# Altium integrated library National Semiconductor Switcher.IntLib: 2226 symbols (part 38 of 59)
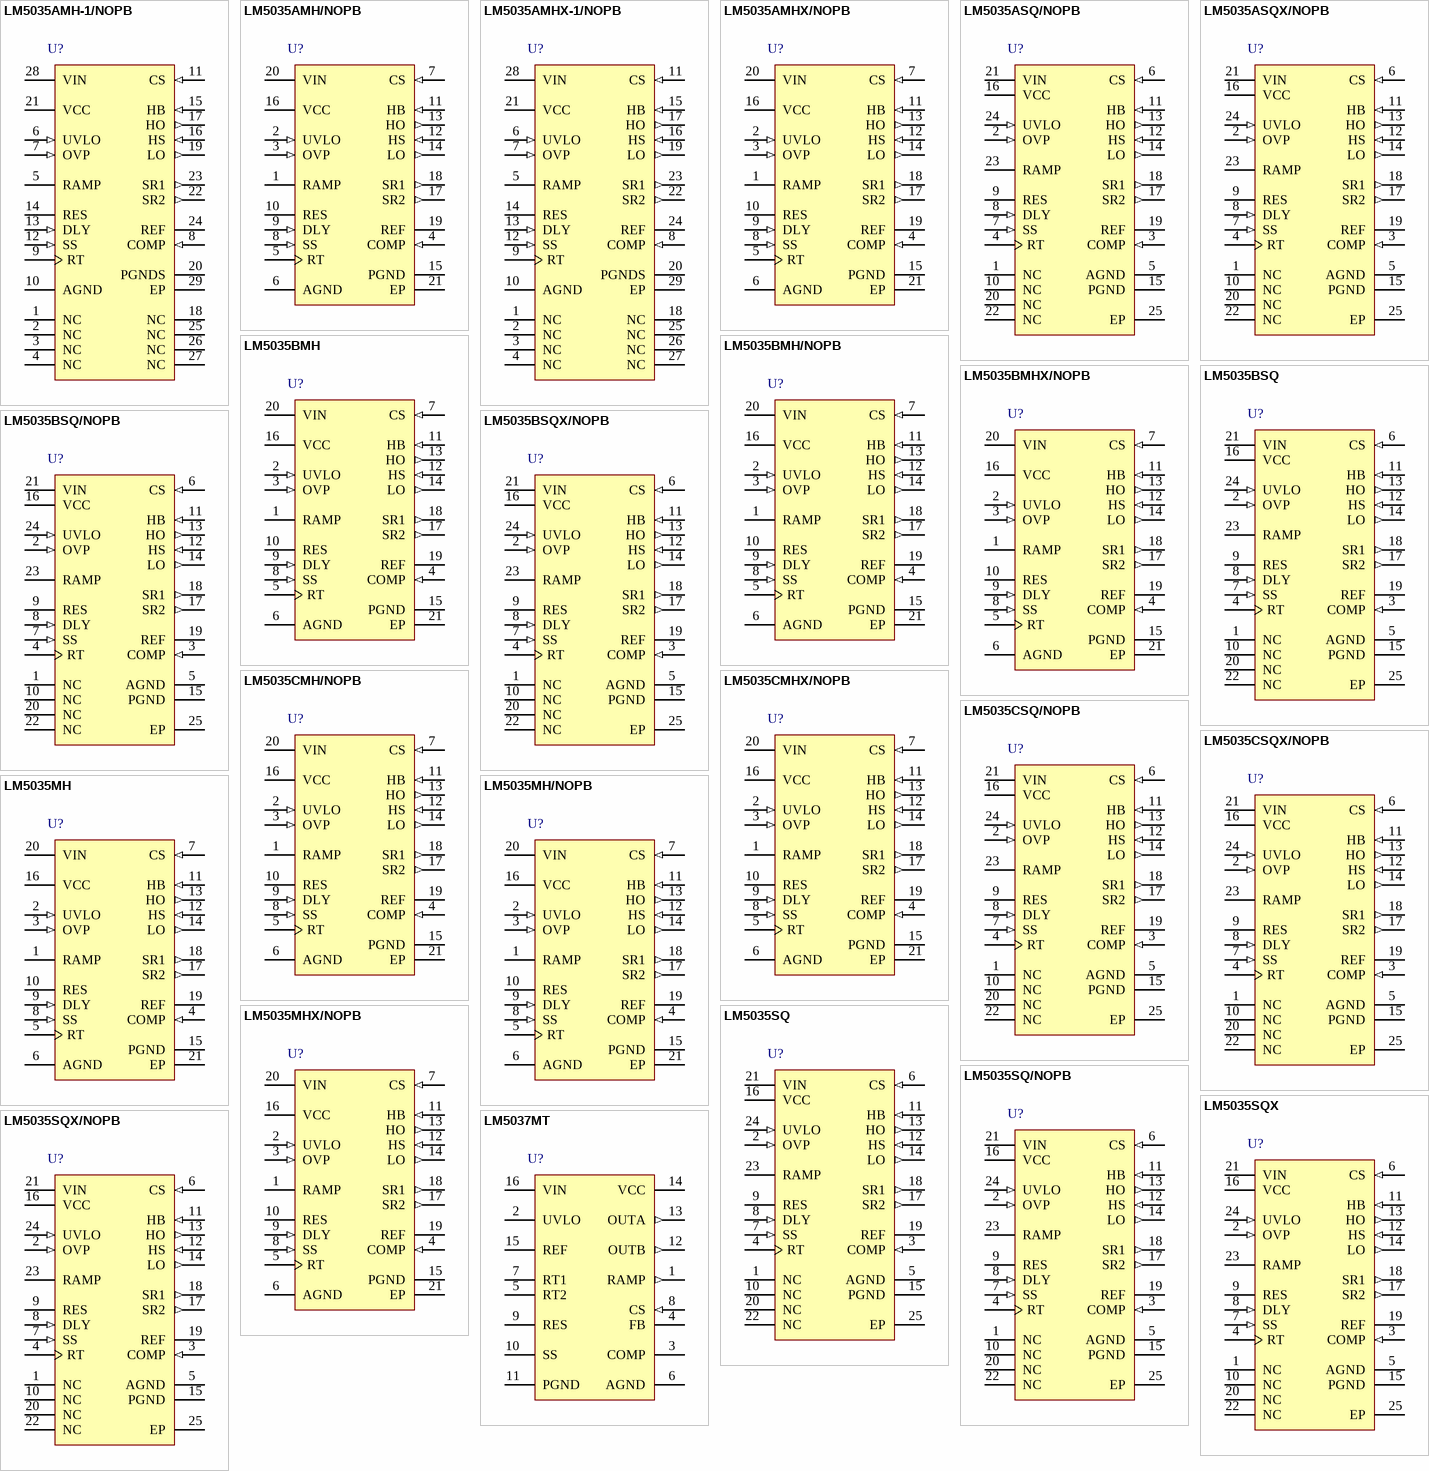
[diagram p106: symbols LM5035AMH-1/NOPB to LM5037MT]

## LM5035BMH/NOPB
designator U?
PWM Controller with Integrated Half-Bridge and SyncFET Drivers, 20-pin TSSOP-EP, Pb-Free; PartNumber: LM5035BMH/NOPB; Manufacturer: National Semiconductor; PackageTopMarking: NSUZXYTT*LM5035*BMH; PowerWise: Y; CompType: Switcher; DatasheetVersion: Jul-2009; PackageVersion: revC, Jul-2006; PackageReference: MXA20A; PackageDescription: Molded TSSOP, Jedec, 6.5 x 4.4 x 0.9mm Body, 20 Lead, 0.65mm Pitch, Exposed Pad; RoHS: Y; PinCount: 20; High-Reliability: Y; Code_JEDEC: MO-153-ACT; ComponentLink1Description: Manufacturer URL; ComponentLink1URL: http://www.national.com/; ComponentLink2Description: LM5035B Datasheet; ComponentLink2URL: http://www.national.com/ds/LM/LM5035B.pdf; ComponentLink3Description: LM5035B Web Page; ComponentLink3URL: http://www.national.com/pf/LM/LM5035B.html; ComponentLink4Description: MXA20A Package Page; ComponentLink4URL: http://www.national.com/packaging/folders/mxa20a.html
footprint MXA20A_N (TSOP, 20-Leads, Body 6.5x4.4mm, Pitch 0.65mm, Thermal Pad, IPC Medium Density)
footprint MXA20A_L (TSOP, 20-Leads, Body 6.5x4.4mm, Pitch 0.65mm, Thermal Pad, IPC High Density)
footprint MXA20A_M (TSOP, 20-Leads, Body 6.5x4.4mm, Pitch 0.65mm, Thermal Pad, IPC Low Density)
pins: 1 RAMP, 2 UVLO (in), 3 OVP (in), 4 COMP (in), 5 RT (power), 6 AGND (power), 7 CS (in), 8 SS (in), 9 DLY (in), 10 RES, 11 HB (in), 12 HS (in), 13 HO (out), 14 LO (out), 15 PGND (power), 16 VCC (power), 17 SR2 (out), 18 SR1 (out), 19 REF (power), 20 VIN (power), 21 EP (power)

## LM5035BMHX/NOPB
designator U?
PWM Controller with Integrated Half-Bridge and SyncFET Drivers, 20-pin TSSOP-EP, Pb-Free; PartNumber: LM5035BMHX/NOPB; Manufacturer: National Semiconductor; PackageTopMarking: NSUZXYTT*LM5035*BMH; PowerWise: Y; CompType: Switcher; DatasheetVersion: Jul-2009; PackageVersion: revC, Jul-2006; PackageReference: MXA20A; PackageDescription: Molded TSSOP, Jedec, 6.5 x 4.4 x 0.9mm Body, 20 Lead, 0.65mm Pitch, Exposed Pad; RoHS: Y; PinCount: 20; High-Reliability: Y; Code_JEDEC: MO-153-ACT; ComponentLink1Description: Manufacturer URL; ComponentLink1URL: http://www.national.com/; ComponentLink2Description: LM5035B Datasheet; ComponentLink2URL: http://www.national.com/ds/LM/LM5035B.pdf; ComponentLink3Description: LM5035B Web Page; ComponentLink3URL: http://www.national.com/pf/LM/LM5035B.html; ComponentLink4Description: MXA20A Package Page; ComponentLink4URL: http://www.national.com/packaging/folders/mxa20a.html
footprint MXA20A_N (TSOP, 20-Leads, Body 6.5x4.4mm, Pitch 0.65mm, Thermal Pad, IPC Medium Density)
footprint MXA20A_L (TSOP, 20-Leads, Body 6.5x4.4mm, Pitch 0.65mm, Thermal Pad, IPC High Density)
footprint MXA20A_M (TSOP, 20-Leads, Body 6.5x4.4mm, Pitch 0.65mm, Thermal Pad, IPC Low Density)
pins: 1 RAMP, 2 UVLO (in), 3 OVP (in), 4 COMP (in), 5 RT (power), 6 AGND (power), 7 CS (in), 8 SS (in), 9 DLY (in), 10 RES, 11 HB (in), 12 HS (in), 13 HO (out), 14 LO (out), 15 PGND (power), 16 VCC (power), 17 SR2 (out), 18 SR1 (out), 19 REF (power), 20 VIN (power), 21 EP (power)

## LM5035BSQ
designator U?
PWM Controller with Integrated Half-Bridge and SyncFET Drivers, 24-pin LLP; PartNumber: LM5035BSQ; Manufacturer: National Semiconductor; PackageTopMarking: NS*UZXYTT*5035BSQ; PowerWise: N; CompType: Switcher; High-Reliability: Y; DatasheetVersion: Jul-2009; PackageVersion: revA, Oct-2003; PackageReference: SQA24B; PackageDescription: LLP, Plastic, Quad, 5 x 4 x 0.8mm Body, 24 Lead, 0.5mm Pitch, No Pullback; RoHS: Y; PinCount: 24; Code_JEDEC: MO-220-WGHD-1; ComponentLink1Description: Manufacturer URL; ComponentLink1URL: http://www.national.com/; ComponentLink2Description: LM5035B Datasheet; ComponentLink2URL: http://www.national.com/ds/LM/LM5035B.pdf; ComponentLink3Description: LM5035B Web Page; ComponentLink3URL: http://www.national.com/pf/LM/LM5035B.html; ComponentLink4Description: SQA24B Package Page; ComponentLink4URL: http://www.national.com/packaging/folders/sqa24b.html
footprint SQA24B (QFN, 24-Leads, Body 5x4mm, Pitch 0.5mm, NSC Recommended)
pins: 1 NC, 2 OVP (in), 3 COMP (in), 4 RT (power), 5 AGND (power), 6 CS (in), 7 SS (in), 8 DLY (in), 9 RES, 10 NC, 11 HB (in), 12 HS (in), 13 HO (out), 14 LO (out), 15 PGND (power), 16 VCC (power), 17 SR2 (out), 18 SR1 (out), 19 REF (power), 20 NC, 21 VIN (power), 22 NC, 23 RAMP, 24 UVLO (in), 25 EP (power)

## LM5035BSQ/NOPB
designator U?
PWM Controller with Integrated Half-Bridge and SyncFET Drivers, 24-pin LLP, Pb-Free; PartNumber: LM5035BSQ/NOPB; Manufacturer: National Semiconductor; PackageTopMarking: NS*UZXYTT*5035BSQ; PowerWise: Y; CompType: Switcher; DatasheetVersion: Jul-2009; PackageVersion: revA, Oct-2003; PackageReference: SQA24B; PackageDescription: LLP, Plastic, Quad, 5 x 4 x 0.8mm Body, 24 Lead, 0.5mm Pitch, No Pullback; RoHS: Y; PinCount: 24; High-Reliability: Y; Code_JEDEC: MO-220-WGHD-1; ComponentLink1Description: Manufacturer URL; ComponentLink1URL: http://www.national.com/; ComponentLink2Description: LM5035B Datasheet; ComponentLink2URL: http://www.national.com/ds/LM/LM5035B.pdf; ComponentLink3Description: LM5035B Web Page; ComponentLink3URL: http://www.national.com/pf/LM/LM5035B.html; ComponentLink4Description: SQA24B Package Page; ComponentLink4URL: http://www.national.com/packaging/folders/sqa24b.html
footprint SQA24B (QFN, 24-Leads, Body 5x4mm, Pitch 0.5mm, NSC Recommended)
pins: 1 NC, 2 OVP (in), 3 COMP (in), 4 RT (power), 5 AGND (power), 6 CS (in), 7 SS (in), 8 DLY (in), 9 RES, 10 NC, 11 HB (in), 12 HS (in), 13 HO (out), 14 LO (out), 15 PGND (power), 16 VCC (power), 17 SR2 (out), 18 SR1 (out), 19 REF (power), 20 NC, 21 VIN (power), 22 NC, 23 RAMP, 24 UVLO (in), 25 EP (power)

## LM5035BSQX/NOPB
designator U?
PWM Controller with Integrated Half-Bridge and SyncFET Drivers, 24-pin LLP, Pb-Free; PartNumber: LM5035BSQX/NOPB; Manufacturer: National Semiconductor; PackageTopMarking: NS*UZXYTT*5035BSQ; PowerWise: Y; CompType: Switcher; DatasheetVersion: Jul-2009; PackageVersion: revA, Oct-2003; PackageReference: SQA24B; PackageDescription: LLP, Plastic, Quad, 5 x 4 x 0.8mm Body, 24 Lead, 0.5mm Pitch, No Pullback; RoHS: Y; PinCount: 24; High-Reliability: Y; Code_JEDEC: MO-220-WGHD-1; ComponentLink1Description: Manufacturer URL; ComponentLink1URL: http://www.national.com/; ComponentLink2Description: LM5035B Datasheet; ComponentLink2URL: http://www.national.com/ds/LM/LM5035B.pdf; ComponentLink3Description: LM5035B Web Page; ComponentLink3URL: http://www.national.com/pf/LM/LM5035B.html; ComponentLink4Description: SQA24B Package Page; ComponentLink4URL: http://www.national.com/packaging/folders/sqa24b.html
footprint SQA24B (QFN, 24-Leads, Body 5x4mm, Pitch 0.5mm, NSC Recommended)
pins: 1 NC, 2 OVP (in), 3 COMP (in), 4 RT (power), 5 AGND (power), 6 CS (in), 7 SS (in), 8 DLY (in), 9 RES, 10 NC, 11 HB (in), 12 HS (in), 13 HO (out), 14 LO (out), 15 PGND (power), 16 VCC (power), 17 SR2 (out), 18 SR1 (out), 19 REF (power), 20 NC, 21 VIN (power), 22 NC, 23 RAMP, 24 UVLO (in), 25 EP (power)

## LM5035CMH/NOPB
designator U?
PWM Controller with Integrated Half-Bridge and SyncFET Drivers, 20-pin TSSOP-EP, Pb-Free; PartNumber: LM5035CMH/NOPB; Manufacturer: National Semiconductor; PackageTopMarking: NSUZXYTT*LM5035*CMH; PowerWise: Y; CompType: Switcher; DatasheetVersion: Jan-2010; PackageVersion: revC, Jul-2006; PackageReference: MXA20A; PackageDescription: Molded TSSOP, Jedec, 6.5 x 4.4 x 0.9mm Body, 20 Lead, 0.65mm Pitch, Exposed Pad; RoHS: Y; PinCount: 20; High-Reliability: Y; Code_JEDEC: MO-153-ACT; ComponentLink1Description: Manufacturer URL; ComponentLink1URL: http://www.national.com/; ComponentLink2Description: LM5035 Datasheet; ComponentLink2URL: http://www.national.com/ds/LM/LM5035C.pdf; ComponentLink3Description: LM5035 Web Page; ComponentLink3URL: http://www.national.com/pf/LM/LM5035.html; ComponentLink4Description: MXA20A Package Page; ComponentLink4URL: http://www.national.com/packaging/folders/mxa20a.html
footprint MXA20A_N (TSOP, 20-Leads, Body 6.5x4.4mm, Pitch 0.65mm, Thermal Pad, IPC Medium Density)
footprint MXA20A_L (TSOP, 20-Leads, Body 6.5x4.4mm, Pitch 0.65mm, Thermal Pad, IPC High Density)
footprint MXA20A_M (TSOP, 20-Leads, Body 6.5x4.4mm, Pitch 0.65mm, Thermal Pad, IPC Low Density)
pins: 1 RAMP, 2 UVLO (in), 3 OVP (in), 4 COMP (in), 5 RT (power), 6 AGND (power), 7 CS (in), 8 SS (in), 9 DLY (in), 10 RES, 11 HB (in), 12 HS (in), 13 HO (out), 14 LO (out), 15 PGND (power), 16 VCC (power), 17 SR2 (out), 18 SR1 (out), 19 REF (power), 20 VIN (power), 21 EP (power)

## LM5035CMHX/NOPB
designator U?
PWM Controller with Integrated Half-Bridge and SyncFET Drivers, 20-pin TSSOP-EP, Pb-Free; PartNumber: LM5035CMHX/NOPB; Manufacturer: National Semiconductor; PackageTopMarking: NSUZXYTT*LM5035*CMH; PowerWise: Y; CompType: Switcher; DatasheetVersion: Jan-2010; PackageVersion: revC, Jul-2006; PackageReference: MXA20A; PackageDescription: Molded TSSOP, Jedec, 6.5 x 4.4 x 0.9mm Body, 20 Lead, 0.65mm Pitch, Exposed Pad; RoHS: Y; PinCount: 20; High-Reliability: Y; Code_JEDEC: MO-153-ACT; ComponentLink1Description: Manufacturer URL; ComponentLink1URL: http://www.national.com/; ComponentLink2Description: LM5035 Datasheet; ComponentLink2URL: http://www.national.com/ds/LM/LM5035C.pdf; ComponentLink3Description: LM5035 Web Page; ComponentLink3URL: http://www.national.com/pf/LM/LM5035.html; ComponentLink4Description: MXA20A Package Page; ComponentLink4URL: http://www.national.com/packaging/folders/mxa20a.html
footprint MXA20A_N (TSOP, 20-Leads, Body 6.5x4.4mm, Pitch 0.65mm, Thermal Pad, IPC Medium Density)
footprint MXA20A_L (TSOP, 20-Leads, Body 6.5x4.4mm, Pitch 0.65mm, Thermal Pad, IPC High Density)
footprint MXA20A_M (TSOP, 20-Leads, Body 6.5x4.4mm, Pitch 0.65mm, Thermal Pad, IPC Low Density)
pins: 1 RAMP, 2 UVLO (in), 3 OVP (in), 4 COMP (in), 5 RT (power), 6 AGND (power), 7 CS (in), 8 SS (in), 9 DLY (in), 10 RES, 11 HB (in), 12 HS (in), 13 HO (out), 14 LO (out), 15 PGND (power), 16 VCC (power), 17 SR2 (out), 18 SR1 (out), 19 REF (power), 20 VIN (power), 21 EP (power)

## LM5035CSQ/NOPB
designator U?
PWM Controller with Integrated Half-Bridge and SyncFET Drivers, 24-pin LLP, Pb-Free; PartNumber: LM5035CSQ/NOPB; Manufacturer: National Semiconductor; PackageTopMarking: NS*UZXYTT*5035CSQ; PowerWise: Y; CompType: Switcher; DatasheetVersion: Jan-2010; PackageVersion: revA, Oct-2003; PackageReference: SQA24B; PackageDescription: LLP, Plastic, Quad, 5 x 4 x 0.8mm Body, 24 Lead, 0.5mm Pitch, No Pullback; RoHS: Y; PinCount: 24; High-Reliability: Y; Code_JEDEC: MO-220-WGHD-1; ComponentLink1Description: Manufacturer URL; ComponentLink1URL: http://www.national.com/; ComponentLink2Description: LM5035 Datasheet; ComponentLink2URL: http://www.national.com/ds/LM/LM5035C.pdf; ComponentLink3Description: LM5035 Web Page; ComponentLink3URL: http://www.national.com/pf/LM/LM5035.html; ComponentLink4Description: SQA24B Package Page; ComponentLink4URL: http://www.national.com/packaging/folders/sqa24b.html
footprint SQA24B (QFN, 24-Leads, Body 5x4mm, Pitch 0.5mm, NSC Recommended)
pins: 1 NC, 2 OVP (in), 3 COMP (in), 4 RT (power), 5 AGND (power), 6 CS (in), 7 SS (in), 8 DLY (in), 9 RES, 10 NC, 11 HB (in), 12 HS (in), 13 HO (out), 14 LO (out), 15 PGND (power), 16 VCC (power), 17 SR2 (out), 18 SR1 (out), 19 REF (power), 20 NC, 21 VIN (power), 22 NC, 23 RAMP, 24 UVLO (in), 25 EP (power)

## LM5035CSQX/NOPB
designator U?
PWM Controller with Integrated Half-Bridge and SyncFET Drivers, 24-pin LLP, Pb-Free; PartNumber: LM5035CSQX/NOPB; Manufacturer: National Semiconductor; PackageTopMarking: NS*UZXYTT*5035CSQ; PowerWise: Y; CompType: Switcher; DatasheetVersion: Jan-2010; PackageVersion: revA, Oct-2003; PackageReference: SQA24B; PackageDescription: LLP, Plastic, Quad, 5 x 4 x 0.8mm Body, 24 Lead, 0.5mm Pitch, No Pullback; RoHS: Y; PinCount: 24; High-Reliability: Y; Code_JEDEC: MO-220-WGHD-1; ComponentLink1Description: Manufacturer URL; ComponentLink1URL: http://www.national.com/; ComponentLink2Description: LM5035 Datasheet; ComponentLink2URL: http://www.national.com/ds/LM/LM5035C.pdf; ComponentLink3Description: LM5035 Web Page; ComponentLink3URL: http://www.national.com/pf/LM/LM5035.html; ComponentLink4Description: SQA24B Package Page; ComponentLink4URL: http://www.national.com/packaging/folders/sqa24b.html
footprint SQA24B (QFN, 24-Leads, Body 5x4mm, Pitch 0.5mm, NSC Recommended)
pins: 1 NC, 2 OVP (in), 3 COMP (in), 4 RT (power), 5 AGND (power), 6 CS (in), 7 SS (in), 8 DLY (in), 9 RES, 10 NC, 11 HB (in), 12 HS (in), 13 HO (out), 14 LO (out), 15 PGND (power), 16 VCC (power), 17 SR2 (out), 18 SR1 (out), 19 REF (power), 20 NC, 21 VIN (power), 22 NC, 23 RAMP, 24 UVLO (in), 25 EP (power)

## LM5035MH
designator U?
PWM Controller with Integrated Half-Bridge and SyncFET Drivers, 20-pin TSSOP-EP; PartNumber: LM5035MH; Manufacturer: National Semiconductor; PackageTopMarking: NSUZXYTT*LM5035*MH; PowerWise: Y; CompType: Switcher; DatasheetVersion: Dec-2008; PackageVersion: revC, Jul-2006; PackageReference: MXA20A; PackageDescription: Molded TSSOP, Jedec, 6.5 x 4.4 x 0.9mm Body, 20 Lead, 0.65mm Pitch, Exposed Pad; RoHS: N; PinCount: 20; High-Reliability: Y; Code_JEDEC: MO-153-ACT; ComponentLink1Description: Manufacturer URL; ComponentLink1URL: http://www.national.com/; ComponentLink2Description: LM5035 Datasheet; ComponentLink2URL: http://www.national.com/ds/LM/LM5035.pdf; ComponentLink3Description: LM5035 Web Page; ComponentLink3URL: http://www.national.com/pf/LM/LM5035.html; ComponentLink4Description: MXA20A Package Page; ComponentLink4URL: http://www.national.com/packaging/folders/mxa20a.html
footprint MXA20A_N (TSOP, 20-Leads, Body 6.5x4.4mm, Pitch 0.65mm, Thermal Pad, IPC Medium Density)
footprint MXA20A_L (TSOP, 20-Leads, Body 6.5x4.4mm, Pitch 0.65mm, Thermal Pad, IPC High Density)
footprint MXA20A_M (TSOP, 20-Leads, Body 6.5x4.4mm, Pitch 0.65mm, Thermal Pad, IPC Low Density)
pins: 1 RAMP, 2 UVLO (in), 3 OVP (in), 4 COMP (in), 5 RT (power), 6 AGND (power), 7 CS (in), 8 SS (in), 9 DLY (in), 10 RES, 11 HB (in), 12 HS (in), 13 HO (out), 14 LO (out), 15 PGND (power), 16 VCC (power), 17 SR2 (out), 18 SR1 (out), 19 REF (power), 20 VIN (power), 21 EP (power)

## LM5035MH/NOPB
designator U?
PWM Controller with Integrated Half-Bridge and SyncFET Drivers, 20-pin TSSOP-EP, Pb-Free; PartNumber: LM5035MH/NOPB; Manufacturer: National Semiconductor; PackageTopMarking: NSUZXYTT*LM5035*MH; PowerWise: Y; CompType: Switcher; DatasheetVersion: Dec-2008; PackageVersion: revC, Jul-2006; PackageReference: MXA20A; PackageDescription: Molded TSSOP, Jedec, 6.5 x 4.4 x 0.9mm Body, 20 Lead, 0.65mm Pitch, Exposed Pad; RoHS: Y; PinCount: 20; High-Reliability: Y; Code_JEDEC: MO-153-ACT; ComponentLink1Description: Manufacturer URL; ComponentLink1URL: http://www.national.com/; ComponentLink2Description: LM5035 Datasheet; ComponentLink2URL: http://www.national.com/ds/LM/LM5035.pdf; ComponentLink3Description: LM5035 Web Page; ComponentLink3URL: http://www.national.com/pf/LM/LM5035.html; ComponentLink4Description: MXA20A Package Page; ComponentLink4URL: http://www.national.com/packaging/folders/mxa20a.html
footprint MXA20A_N (TSOP, 20-Leads, Body 6.5x4.4mm, Pitch 0.65mm, Thermal Pad, IPC Medium Density)
footprint MXA20A_L (TSOP, 20-Leads, Body 6.5x4.4mm, Pitch 0.65mm, Thermal Pad, IPC High Density)
footprint MXA20A_M (TSOP, 20-Leads, Body 6.5x4.4mm, Pitch 0.65mm, Thermal Pad, IPC Low Density)
pins: 1 RAMP, 2 UVLO (in), 3 OVP (in), 4 COMP (in), 5 RT (power), 6 AGND (power), 7 CS (in), 8 SS (in), 9 DLY (in), 10 RES, 11 HB (in), 12 HS (in), 13 HO (out), 14 LO (out), 15 PGND (power), 16 VCC (power), 17 SR2 (out), 18 SR1 (out), 19 REF (power), 20 VIN (power), 21 EP (power)

## LM5035MHX/NOPB
designator U?
PWM Controller with Integrated Half-Bridge and SyncFET Drivers, 20-pin TSSOP-EP, Pb-Free; PartNumber: LM5035MHX/NOPB; Manufacturer: National Semiconductor; PackageTopMarking: NSUZXYTT*LM5035*MH; PowerWise: Y; CompType: Switcher; DatasheetVersion: Dec-2008; PackageVersion: revC, Jul-2006; PackageReference: MXA20A; PackageDescription: Molded TSSOP, Jedec, 6.5 x 4.4 x 0.9mm Body, 20 Lead, 0.65mm Pitch, Exposed Pad; RoHS: Y; PinCount: 20; High-Reliability: Y; Code_JEDEC: MO-153-ACT; ComponentLink1Description: Manufacturer URL; ComponentLink1URL: http://www.national.com/; ComponentLink2Description: LM5035 Datasheet; ComponentLink2URL: http://www.national.com/ds/LM/LM5035.pdf; ComponentLink3Description: LM5035 Web Page; ComponentLink3URL: http://www.national.com/pf/LM/LM5035.html; ComponentLink4Description: MXA20A Package Page; ComponentLink4URL: http://www.national.com/packaging/folders/mxa20a.html
footprint MXA20A_N (TSOP, 20-Leads, Body 6.5x4.4mm, Pitch 0.65mm, Thermal Pad, IPC Medium Density)
footprint MXA20A_L (TSOP, 20-Leads, Body 6.5x4.4mm, Pitch 0.65mm, Thermal Pad, IPC High Density)
footprint MXA20A_M (TSOP, 20-Leads, Body 6.5x4.4mm, Pitch 0.65mm, Thermal Pad, IPC Low Density)
pins: 1 RAMP, 2 UVLO (in), 3 OVP (in), 4 COMP (in), 5 RT (power), 6 AGND (power), 7 CS (in), 8 SS (in), 9 DLY (in), 10 RES, 11 HB (in), 12 HS (in), 13 HO (out), 14 LO (out), 15 PGND (power), 16 VCC (power), 17 SR2 (out), 18 SR1 (out), 19 REF (power), 20 VIN (power), 21 EP (power)

## LM5035SQ
designator U?
PWM Controller with Integrated Half-Bridge and SyncFET Drivers, 24-pin LLP; PartNumber: LM5035SQ; Manufacturer: National Semiconductor; PackageTopMarking: NS*UZXYTT*L5035SQ; PowerWise: Y; CompType: Switcher; DatasheetVersion: Dec-2008; PackageVersion: revA, Oct-2003; PackageReference: SQA24B; PackageDescription: LLP, Plastic, Quad, 5 x 4 x 0.8mm Body, 24 Lead, 0.5mm Pitch, No Pullback; RoHS: N; PinCount: 24; High-Reliability: Y; Code_JEDEC: MO-220-WGHD-1; ComponentLink1Description: Manufacturer URL; ComponentLink1URL: http://www.national.com/; ComponentLink2Description: LM5035 Datasheet; ComponentLink2URL: http://www.national.com/ds/LM/LM5035.pdf; ComponentLink3Description: LM5035 Web Page; ComponentLink3URL: http://www.national.com/pf/LM/LM5035.html; ComponentLink4Description: SQA24B Package Page; ComponentLink4URL: http://www.national.com/packaging/folders/sqa24b.html
footprint SQA24B (QFN, 24-Leads, Body 5x4mm, Pitch 0.5mm, NSC Recommended)
pins: 1 NC, 2 OVP (in), 3 COMP (in), 4 RT (power), 5 AGND (power), 6 CS (in), 7 SS (in), 8 DLY (in), 9 RES, 10 NC, 11 HB (in), 12 HS (in), 13 HO (out), 14 LO (out), 15 PGND (power), 16 VCC (power), 17 SR2 (out), 18 SR1 (out), 19 REF (power), 20 NC, 21 VIN (power), 22 NC, 23 RAMP, 24 UVLO (in), 25 EP (power)

## LM5035SQ/NOPB
designator U?
PWM Controller with Integrated Half-Bridge and SyncFET Drivers, 24-pin LLP, Pb-Free; PartNumber: LM5035SQ/NOPB; Manufacturer: National Semiconductor; PackageTopMarking: NS*UZXYTT*L5035SQ; PowerWise: Y; CompType: Switcher; DatasheetVersion: Dec-2008; PackageVersion: revA, Oct-2003; PackageReference: SQA24B; PackageDescription: LLP, Plastic, Quad, 5 x 4 x 0.8mm Body, 24 Lead, 0.5mm Pitch, No Pullback; RoHS: Y; PinCount: 24; High-Reliability: Y; Code_JEDEC: MO-220-WGHD-1; ComponentLink1Description: Manufacturer URL; ComponentLink1URL: http://www.national.com/; ComponentLink2Description: LM5035 Datasheet; ComponentLink2URL: http://www.national.com/ds/LM/LM5035.pdf; ComponentLink3Description: LM5035 Web Page; ComponentLink3URL: http://www.national.com/pf/LM/LM5035.html; ComponentLink4Description: SQA24B Package Page; ComponentLink4URL: http://www.national.com/packaging/folders/sqa24b.html
footprint SQA24B (QFN, 24-Leads, Body 5x4mm, Pitch 0.5mm, NSC Recommended)
pins: 1 NC, 2 OVP (in), 3 COMP (in), 4 RT (power), 5 AGND (power), 6 CS (in), 7 SS (in), 8 DLY (in), 9 RES, 10 NC, 11 HB (in), 12 HS (in), 13 HO (out), 14 LO (out), 15 PGND (power), 16 VCC (power), 17 SR2 (out), 18 SR1 (out), 19 REF (power), 20 NC, 21 VIN (power), 22 NC, 23 RAMP, 24 UVLO (in), 25 EP (power)

## LM5035SQX
designator U?
PWM Controller with Integrated Half-Bridge and SyncFET Drivers, 24-pin LLP; PartNumber: LM5035SQX; Manufacturer: National Semiconductor; PackageTopMarking: NS*UZXYTT*L5035SQ; PowerWise: Y; CompType: Switcher; DatasheetVersion: Dec-2008; PackageVersion: revA, Oct-2003; PackageReference: SQA24B; PackageDescription: LLP, Plastic, Quad, 5 x 4 x 0.8mm Body, 24 Lead, 0.5mm Pitch, No Pullback; RoHS: N; PinCount: 24; High-Reliability: Y; Code_JEDEC: MO-220-WGHD-1; ComponentLink1Description: Manufacturer URL; ComponentLink1URL: http://www.national.com/; ComponentLink2Description: LM5035 Datasheet; ComponentLink2URL: http://www.national.com/ds/LM/LM5035.pdf; ComponentLink3Description: LM5035 Web Page; ComponentLink3URL: http://www.national.com/pf/LM/LM5035.html; ComponentLink4Description: SQA24B Package Page; ComponentLink4URL: http://www.national.com/packaging/folders/sqa24b.html
footprint SQA24B (QFN, 24-Leads, Body 5x4mm, Pitch 0.5mm, NSC Recommended)
pins: 1 NC, 2 OVP (in), 3 COMP (in), 4 RT (power), 5 AGND (power), 6 CS (in), 7 SS (in), 8 DLY (in), 9 RES, 10 NC, 11 HB (in), 12 HS (in), 13 HO (out), 14 LO (out), 15 PGND (power), 16 VCC (power), 17 SR2 (out), 18 SR1 (out), 19 REF (power), 20 NC, 21 VIN (power), 22 NC, 23 RAMP, 24 UVLO (in), 25 EP (power)

## LM5035SQX/NOPB
designator U?
PWM Controller with Integrated Half-Bridge and SyncFET Drivers, 24-pin LLP, Pb-Free; PartNumber: LM5035SQX/NOPB; Manufacturer: National Semiconductor; PackageTopMarking: NS*UZXYTT*L5035SQ; PowerWise: Y; CompType: Switcher; DatasheetVersion: Dec-2008; PackageVersion: revA, Oct-2003; PackageReference: SQA24B; PackageDescription: LLP, Plastic, Quad, 5 x 4 x 0.8mm Body, 24 Lead, 0.5mm Pitch, No Pullback; RoHS: Y; PinCount: 24; High-Reliability: Y; Code_JEDEC: MO-220-WGHD-1; ComponentLink1Description: Manufacturer URL; ComponentLink1URL: http://www.national.com/; ComponentLink2Description: LM5035 Datasheet; ComponentLink2URL: http://www.national.com/ds/LM/LM5035.pdf; ComponentLink3Description: LM5035 Web Page; ComponentLink3URL: http://www.national.com/pf/LM/LM5035.html; ComponentLink4Description: SQA24B Package Page; ComponentLink4URL: http://www.national.com/packaging/folders/sqa24b.html
footprint SQA24B (QFN, 24-Leads, Body 5x4mm, Pitch 0.5mm, NSC Recommended)
pins: 1 NC, 2 OVP (in), 3 COMP (in), 4 RT (power), 5 AGND (power), 6 CS (in), 7 SS (in), 8 DLY (in), 9 RES, 10 NC, 11 HB (in), 12 HS (in), 13 HO (out), 14 LO (out), 15 PGND (power), 16 VCC (power), 17 SR2 (out), 18 SR1 (out), 19 REF (power), 20 NC, 21 VIN (power), 22 NC, 23 RAMP, 24 UVLO (in), 25 EP (power)

## LM5037MT
designator U?
Dual-Mode PWM Controller with Alternating Outputs, 16-pin TSSOP; PartNumber: LM5037MT; Manufacturer: National Semiconductor; PackageTopMarking: NSUZXYTT*LM5037*MT; PowerWise: Y; CompType: Switcher; DatasheetVersion: Jan-2010; PackageVersion: revD, Jun-2003; PackageReference: MTC16; PackageDescription: Molded TSSOP, Jedec, 5 x 4.4 x 0.9mm Body, 16 Lead, 0.65mm Pitch; RoHS: Y; PinCount: 16; High-Reliability: Y; Code_JEDEC: MO-153-AB; ComponentLink1Description: Manufacturer URL; ComponentLink1URL: http://www.national.com/; ComponentLink2Description: LM5037 Datasheet; ComponentLink2URL: http://www.national.com/ds/LM/LM5037.pdf; ComponentLink3Description: LM5037 Web Page; ComponentLink3URL: http://www.national.com/pf/LM/LM5037.html; ComponentLink4Description: MTC16 Package Page; ComponentLink4URL: http://www.national.com/packaging/folders/mtc16.html
footprint MTC16_N (TSOP, 16-Leads, Body 5x4.4mm, Pitch 0.65mm, IPC Medium Density)
footprint MTC16_L (TSOP, 16-Leads, Body 5x4.4mm, Pitch 0.65mm, IPC High Density)
footprint MTC16_M (TSOP, 16-Leads, Body 5x4.4mm, Pitch 0.65mm, IPC Low Density)
pins: 1 RAMP (out), 2 UVLO, 3 COMP, 4 FB, 5 RT2, 6 AGND (power), 7 RT1, 8 CS (in), 9 RES, 10 SS, 11 PGND (power), 12 OUTB (out), 13 OUTA (out), 14 VCC (power), 15 REF, 16 VIN

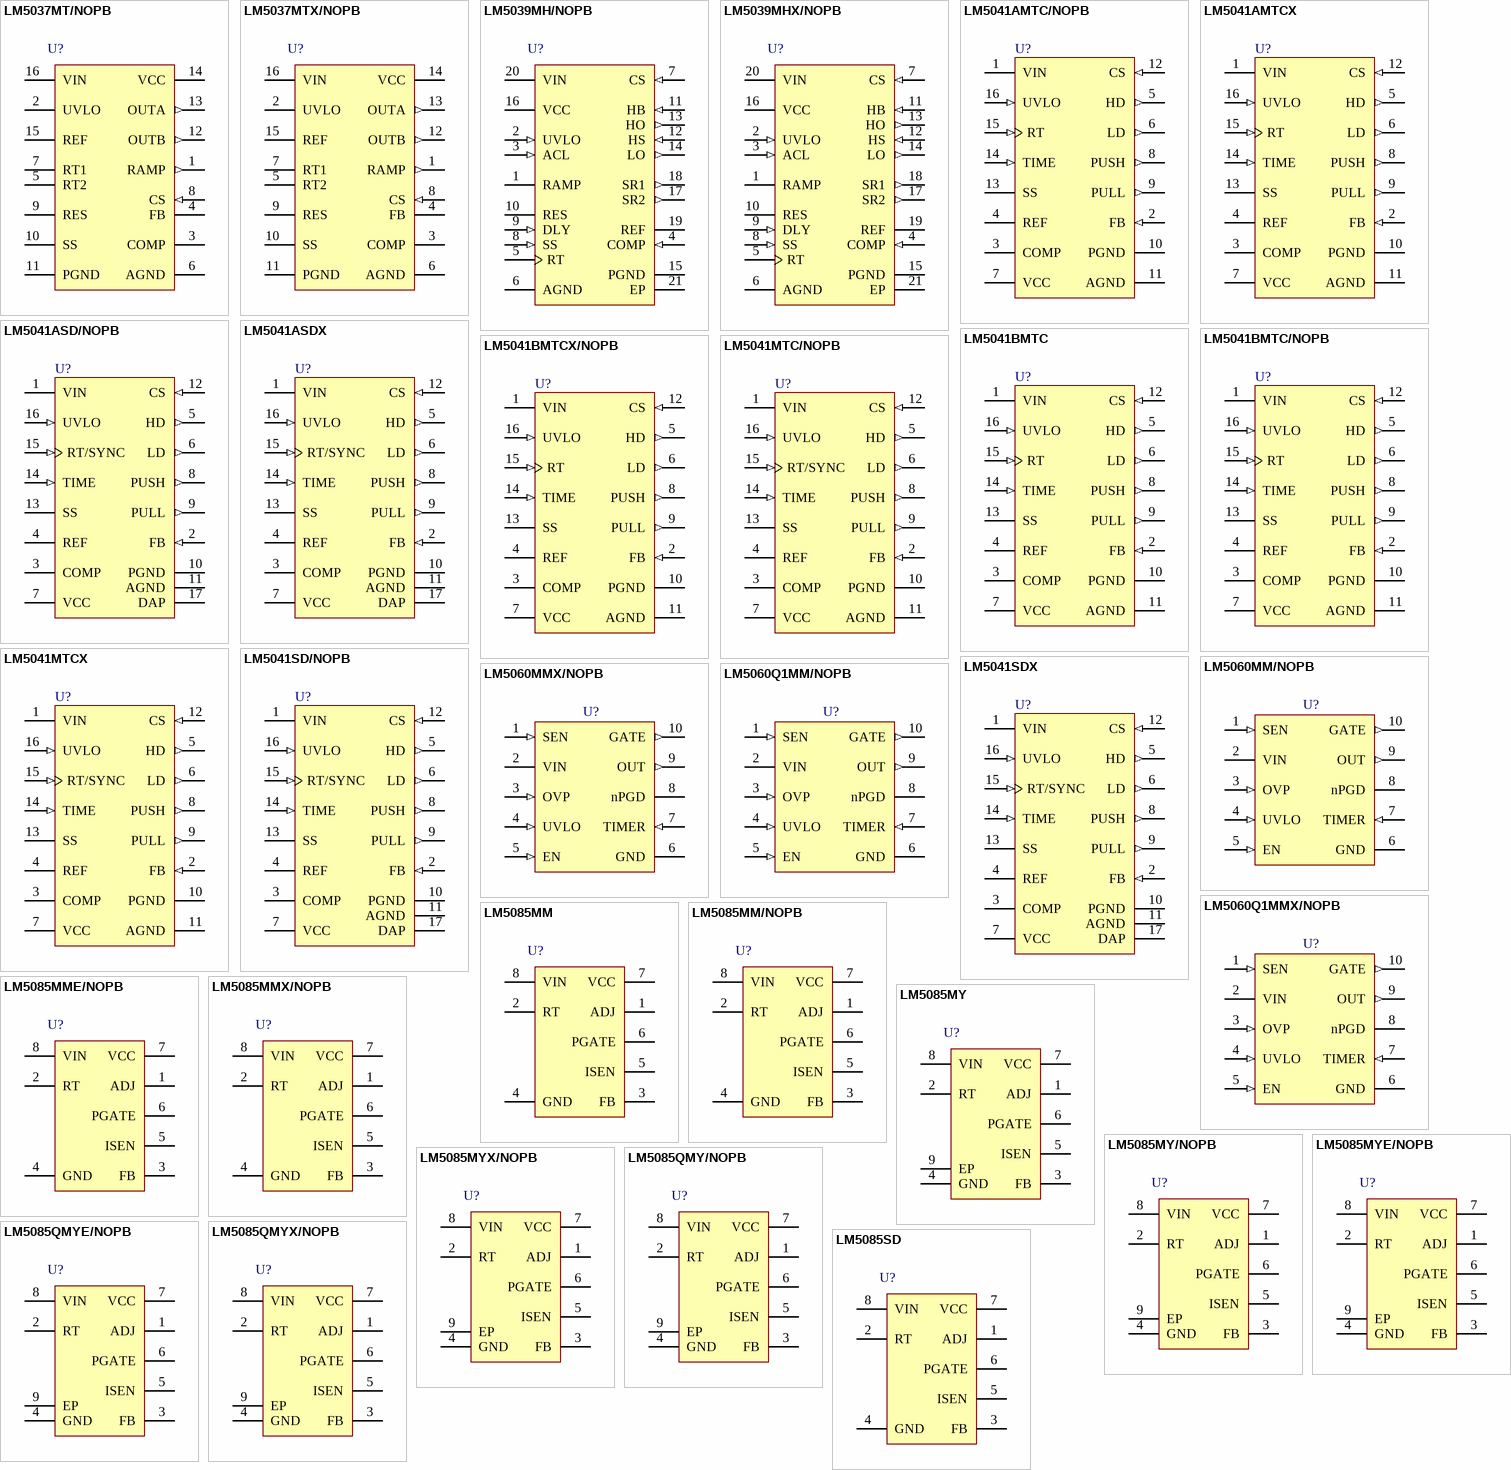
[diagram p42: symbols LM5037MT/NOPB to LM5085SD]

## LM5037MT/NOPB
designator U?
Dual-Mode PWM Controller With Alternating Outputs, 16-pin TSSOP, Pb-Free; PartNumber: LM5037MT/NOPB; Manufacturer: National Semiconductor; PackageTopMarking: NSUZXYTT*LM5037*MT; PowerWise: Y; CompType: Switcher; DatasheetVersion: Jan-2010; PackageVersion: revD, Jun-2003; PackageReference: MTC16; PackageDescription: Molded TSSOP, Jedec, 5 x 4.4 x 0.9mm Body, 16 Lead, 0.65mm Pitch; RoHS: Y; PinCount: 16; High-Reliability: Y; Code_JEDEC: MO-153-AB; ComponentLink1Description: Manufacturer URL; ComponentLink1URL: http://www.national.com/; ComponentLink2Description: LM5037 Datasheet; ComponentLink2URL: http://www.national.com/ds/LM/LM5037.pdf; ComponentLink3Description: LM5037 Web Page; ComponentLink3URL: http://www.national.com/pf/LM/LM5037.html; ComponentLink4Description: MTC16 Package Page; ComponentLink4URL: http://www.national.com/packaging/folders/mtc16.html
footprint MTC16_N (TSOP, 16-Leads, Body 5x4.4mm, Pitch 0.65mm, IPC Medium Density)
footprint MTC16_L (TSOP, 16-Leads, Body 5x4.4mm, Pitch 0.65mm, IPC High Density)
footprint MTC16_M (TSOP, 16-Leads, Body 5x4.4mm, Pitch 0.65mm, IPC Low Density)
pins: 1 RAMP (out), 2 UVLO, 3 COMP, 4 FB, 5 RT2, 6 AGND (power), 7 RT1, 8 CS (in), 9 RES, 10 SS, 11 PGND (power), 12 OUTB (out), 13 OUTA (out), 14 VCC (power), 15 REF, 16 VIN

## LM5037MTX/NOPB
designator U?
Dual-Mode PWM Controller With Alternating Outputs, 16-pin TSSOP, Pb-Free; PartNumber: LM5037MTX/NOPB; Manufacturer: National Semiconductor; PackageTopMarking: NSUZXYTT*LM5037*MT; PowerWise: Y; CompType: Switcher; DatasheetVersion: Jan-2010; PackageVersion: revD, Jun-2003; PackageReference: MTC16; PackageDescription: Molded TSSOP, Jedec, 5 x 4.4 x 0.9mm Body, 16 Lead, 0.65mm Pitch; RoHS: Y; PinCount: 16; High-Reliability: Y; Code_JEDEC: MO-153-AB; ComponentLink1Description: Manufacturer URL; ComponentLink1URL: http://www.national.com/; ComponentLink2Description: LM5037 Datasheet; ComponentLink2URL: http://www.national.com/ds/LM/LM5037.pdf; ComponentLink3Description: LM5037 Web Page; ComponentLink3URL: http://www.national.com/pf/LM/LM5037.html; ComponentLink4Description: MTC16 Package Page; ComponentLink4URL: http://www.national.com/packaging/folders/mtc16.html
footprint MTC16_N (TSOP, 16-Leads, Body 5x4.4mm, Pitch 0.65mm, IPC Medium Density)
footprint MTC16_L (TSOP, 16-Leads, Body 5x4.4mm, Pitch 0.65mm, IPC High Density)
footprint MTC16_M (TSOP, 16-Leads, Body 5x4.4mm, Pitch 0.65mm, IPC Low Density)
pins: 1 RAMP (out), 2 UVLO, 3 COMP, 4 FB, 5 RT2, 6 AGND (power), 7 RT1, 8 CS (in), 9 RES, 10 SS, 11 PGND (power), 12 OUTB (out), 13 OUTA (out), 14 VCC (power), 15 REF, 16 VIN

## LM5039MH/NOPB
designator U?
Half-Bridge PWM Controller with Advanced Current Limit, 20-pin TSSOP-EP, Pb-Free; PartNumber: LM5039MH/NOPB; Manufacturer: National Semiconductor; PackageTopMarking: NSUZXYTT*LM5039*MH; PowerWise: Y; CompType: Switcher; DatasheetVersion: Feb-2010; PackageVersion: revC, Jul-2006; PackageReference: MXA20A; PackageDescription: Molded TSSOP, Jedec, 6.5 x 4.4 x 0.9mm Body, 20 Lead, 0.65mm Pitch, Exposed Pad; RoHS: Y; PinCount: 20; High-Reliability: Y; Code_JEDEC: MO-153-ACT; ComponentLink1Description: Manufacturer URL; ComponentLink1URL: http://www.national.com/; ComponentLink2Description: LM5039 Datasheet; ComponentLink2URL: http://www.national.com/ds/LM/LM5039.pdf; ComponentLink3Description: LM5039 Web Page; ComponentLink3URL: http://www.national.com/pf/LM/LM5039.html; ComponentLink4Description: MXA20A Package Page; ComponentLink4URL: http://www.national.com/packaging/folders/mxa20a.html
footprint MXA20A_N (TSOP, 20-Leads, Body 6.5x4.4mm, Pitch 0.65mm, Thermal Pad, IPC Medium Density)
footprint MXA20A_L (TSOP, 20-Leads, Body 6.5x4.4mm, Pitch 0.65mm, Thermal Pad, IPC High Density)
footprint MXA20A_M (TSOP, 20-Leads, Body 6.5x4.4mm, Pitch 0.65mm, Thermal Pad, IPC Low Density)
pins: 1 RAMP, 2 UVLO (in), 3 ACL (in), 4 COMP (in), 5 RT (power), 6 AGND (power), 7 CS (in), 8 SS (in), 9 DLY (in), 10 RES, 11 HB (in), 12 HS (in), 13 HO (out), 14 LO (out), 15 PGND (power), 16 VCC (power), 17 SR2 (out), 18 SR1 (out), 19 REF (power), 20 VIN (power), 21 EP (power)

## LM5039MHX/NOPB
designator U?
Half-Bridge PWM Controller with Advanced Current Limit, 20-pin TSSOP-EP, Pb-Free; PartNumber: LM5039MHX/NOPB; Manufacturer: National Semiconductor; PackageTopMarking: NSUZXYTT*LM5039*MH; PowerWise: Y; CompType: Switcher; DatasheetVersion: Feb-2010; PackageVersion: revC, Jul-2006; PackageReference: MXA20A; PackageDescription: Molded TSSOP, Jedec, 6.5 x 4.4 x 0.9mm Body, 20 Lead, 0.65mm Pitch, Exposed Pad; RoHS: Y; PinCount: 20; High-Reliability: Y; Code_JEDEC: MO-153-ACT; ComponentLink1Description: Manufacturer URL; ComponentLink1URL: http://www.national.com/; ComponentLink2Description: LM5039 Datasheet; ComponentLink2URL: http://www.national.com/ds/LM/LM5039.pdf; ComponentLink3Description: LM5039 Web Page; ComponentLink3URL: http://www.national.com/pf/LM/LM5039.html; ComponentLink4Description: MXA20A Package Page; ComponentLink4URL: http://www.national.com/packaging/folders/mxa20a.html
footprint MXA20A_N (TSOP, 20-Leads, Body 6.5x4.4mm, Pitch 0.65mm, Thermal Pad, IPC Medium Density)
footprint MXA20A_L (TSOP, 20-Leads, Body 6.5x4.4mm, Pitch 0.65mm, Thermal Pad, IPC High Density)
footprint MXA20A_M (TSOP, 20-Leads, Body 6.5x4.4mm, Pitch 0.65mm, Thermal Pad, IPC Low Density)
pins: 1 RAMP, 2 UVLO (in), 3 ACL (in), 4 COMP (in), 5 RT (power), 6 AGND (power), 7 CS (in), 8 SS (in), 9 DLY (in), 10 RES, 11 HB (in), 12 HS (in), 13 HO (out), 14 LO (out), 15 PGND (power), 16 VCC (power), 17 SR2 (out), 18 SR1 (out), 19 REF (power), 20 VIN (power), 21 EP (power)

## LM5041AMTC/NOPB
designator U?
Cascaded PWM Controller, 16-pin TSSOP, Pb-Free; PartNumber: LM5041AMTC/NOPB; Manufacturer: National Semiconductor; PackageTopMarking: NSUZXYTT*LM5041A*MTC; PowerWise: Y; CompType: Switcher; DatasheetVersion: May-2009; PackageVersion: revD, Jun-2003; PackageReference: MTC16; PackageDescription: Molded TSSOP, Jedec, 5 x 4.4 x 0.9mm Body, 16 Lead, 0.65mm Pitch; RoHS: Y; PinCount: 16; High-Reliability: Y; Code_JEDEC: MO-153-AB; ComponentLink1Description: Manufacturer URL; ComponentLink1URL: http://www.national.com/; ComponentLink2Description: LM5041A Datasheet; ComponentLink2URL: http://www.national.com/ds/LM/LM5041A.pdf; ComponentLink3Description: LM5041A Web Page; ComponentLink3URL: http://www.national.com/pf/LM/LM5041A.html; ComponentLink4Description: MTC16 Package Page; ComponentLink4URL: http://www.national.com/packaging/folders/mtc16.html
footprint MTC16_N (TSOP, 16-Leads, Body 5x4.4mm, Pitch 0.65mm, IPC Medium Density)
footprint MTC16_L (TSOP, 16-Leads, Body 5x4.4mm, Pitch 0.65mm, IPC High Density)
footprint MTC16_M (TSOP, 16-Leads, Body 5x4.4mm, Pitch 0.65mm, IPC Low Density)
pins: 1 VIN (power), 2 FB (in), 3 COMP, 4 REF (power), 5 HD (out), 6 LD (out), 7 VCC (power), 8 PUSH (out), 9 PULL (out), 10 PGND (power), 11 AGND (power), 12 CS (in), 13 SS, 14 TIME (in), 15 RT (in), 16 UVLO (in)

## LM5041AMTCX
designator U?
Cascaded PWM Controller, 16-pin TSSOP; PartNumber: LM5041AMTCX; Manufacturer: National Semiconductor; PackageTopMarking: NSUZXYTT*LM5041A*MTC; PowerWise: Y; CompType: Switcher; DatasheetVersion: May-2009; PackageVersion: revD, Jun-2003; PackageReference: MTC16; PackageDescription: Molded TSSOP, Jedec, 5 x 4.4 x 0.9mm Body, 16 Lead, 0.65mm Pitch; RoHS: N; PinCount: 16; High-Reliability: Y; Code_JEDEC: MO-153-AB; ComponentLink1Description: Manufacturer URL; ComponentLink1URL: http://www.national.com/; ComponentLink2Description: LM5041A Datasheet; ComponentLink2URL: http://www.national.com/ds/LM/LM5041A.pdf; ComponentLink3Description: LM5041A Web Page; ComponentLink3URL: http://www.national.com/pf/LM/LM5041A.html; ComponentLink4Description: MTC16 Package Page; ComponentLink4URL: http://www.national.com/packaging/folders/mtc16.html
footprint MTC16_N (TSOP, 16-Leads, Body 5x4.4mm, Pitch 0.65mm, IPC Medium Density)
footprint MTC16_L (TSOP, 16-Leads, Body 5x4.4mm, Pitch 0.65mm, IPC High Density)
footprint MTC16_M (TSOP, 16-Leads, Body 5x4.4mm, Pitch 0.65mm, IPC Low Density)
pins: 1 VIN (power), 2 FB (in), 3 COMP, 4 REF (power), 5 HD (out), 6 LD (out), 7 VCC (power), 8 PUSH (out), 9 PULL (out), 10 PGND (power), 11 AGND (power), 12 CS (in), 13 SS, 14 TIME (in), 15 RT (in), 16 UVLO (in)

## LM5041ASD/NOPB
designator U?
Cascaded PWM Controller, 16-pin LLP, Pb-Free; PartNumber: LM5041ASD/NOPB; Manufacturer: National Semiconductor; PackageTopMarking: NS*UZXYTT*5041ASD; PowerWise: Y; CompType: Switcher; DatasheetVersion: May-2005; PackageVersion: revA, May-2003; PackageReference: SDA16A; PackageDescription: LLP, Plastic, Dual, 5 x 5 x 0.8mm Body,16 Lead, 0.5mm Pitch, No Pullback; RoHS: Y; PinCount: 16; High-Reliability: Y; ComponentLink1Description: Manufacturer URL; ComponentLink1URL: http://www.national.com/; ComponentLink2Description: LM5041A Datasheet; ComponentLink2URL: http://www.national.com/ds/LM/LM5041A.pdf; ComponentLink3Description: LM5041A Web Page; ComponentLink3URL: http://www.national.com/pf/LM/LM5041A.html; ComponentLink4Description: SDA16A Package Page; ComponentLink4URL: http://www.national.com/packaging/folders/sda16a.html
footprint SDA16A (SON, 16-Leads, Body 5x5mm, Pitch 0.5mm, NSC Recommended)
pins: 1 VIN (power), 2 FB (in), 3 COMP, 4 REF (power), 5 HD (out), 6 LD (out), 7 VCC (power), 8 PUSH (out), 9 PULL (out), 10 PGND (power), 11 AGND (power), 12 CS (in), 13 SS, 14 TIME (in), 15 RT/SYNC (in), 16 UVLO (in), 17 DAP (power)

## LM5041ASDX
designator U?
Cascaded PWM Controller, 16-pin LLP; PartNumber: LM5041ASDX; Manufacturer: National Semiconductor; PackageTopMarking: NS*UZXYTT*5041ASD; PowerWise: Y; CompType: Switcher; DatasheetVersion: May-2005; PackageVersion: revA, May-2003; PackageReference: SDA16A; PackageDescription: LLP, Plastic, Dual, 5 x 5 x 0.8mm Body,16 Lead, 0.5mm Pitch, No Pullback; RoHS: N; PinCount: 16; High-Reliability: Y; ComponentLink1Description: Manufacturer URL; ComponentLink1URL: http://www.national.com/; ComponentLink2Description: LM5041A Datasheet; ComponentLink2URL: http://www.national.com/ds/LM/LM5041A.pdf; ComponentLink3Description: LM5041A Web Page; ComponentLink3URL: http://www.national.com/pf/LM/LM5041A.html; ComponentLink4Description: SDA16A Package Page; ComponentLink4URL: http://www.national.com/packaging/folders/sda16a.html
footprint SDA16A (SON, 16-Leads, Body 5x5mm, Pitch 0.5mm, NSC Recommended)
pins: 1 VIN (power), 2 FB (in), 3 COMP, 4 REF (power), 5 HD (out), 6 LD (out), 7 VCC (power), 8 PUSH (out), 9 PULL (out), 10 PGND (power), 11 AGND (power), 12 CS (in), 13 SS, 14 TIME (in), 15 RT/SYNC (in), 16 UVLO (in), 17 DAP (power)

## LM5041BMTC
designator U?
Cascaded PWM Controller, 16-pin TSSOP; PartNumber: LM5041BMTC; Manufacturer: National Semiconductor; PackageTopMarking: NSUZXYTT*LM5041B*MTC; PowerWise: N; CompType: Switcher; High-Reliability: Y; DatasheetVersion: May-2009; PackageVersion: revD, Jun-2003; PackageReference: MTC16; PackageDescription: Molded TSSOP, Jedec, 5 x 4.4 x 0.9mm Body, 16 Lead, 0.65mm Pitch; RoHS: Y; PinCount: 16; Code_JEDEC: MO-153-AB; ComponentLink1Description: Manufacturer URL; ComponentLink1URL: http://www.national.com/; ComponentLink2Description: LM5041B Datasheet; ComponentLink2URL: http://www.national.com/ds/LM/LM5041B.pdf; ComponentLink3Description: LM5041B Web Page; ComponentLink3URL: http://www.national.com/pf/LM/LM5041B.html; ComponentLink4Description: MTC16 Package Page; ComponentLink4URL: http://www.national.com/packaging/folders/mtc16.html
footprint MTC16_N (TSOP, 16-Leads, Body 5x4.4mm, Pitch 0.65mm, IPC Medium Density)
footprint MTC16_L (TSOP, 16-Leads, Body 5x4.4mm, Pitch 0.65mm, IPC High Density)
footprint MTC16_M (TSOP, 16-Leads, Body 5x4.4mm, Pitch 0.65mm, IPC Low Density)
pins: 1 VIN (power), 2 FB (in), 3 COMP, 4 REF (power), 5 HD (out), 6 LD (out), 7 VCC (power), 8 PUSH (out), 9 PULL (out), 10 PGND (power), 11 AGND (power), 12 CS (in), 13 SS, 14 TIME (in), 15 RT (in), 16 UVLO (in)

## LM5041BMTC/NOPB
designator U?
Cascaded PWM Controller, 16-pin TSSOP, Pb-Free; PartNumber: LM5041BMTC/NOPB; Manufacturer: National Semiconductor; PackageTopMarking: NSUZXYTT*LM5041B*MTC; PowerWise: Y; CompType: Switcher; DatasheetVersion: May-2009; PackageVersion: revD, Jun-2003; PackageReference: MTC16; PackageDescription: Molded TSSOP, Jedec, 5 x 4.4 x 0.9mm Body, 16 Lead, 0.65mm Pitch; RoHS: Y; PinCount: 16; High-Reliability: Y; Code_JEDEC: MO-153-AB; ComponentLink1Description: Manufacturer URL; ComponentLink1URL: http://www.national.com/; ComponentLink2Description: LM5041B Datasheet; ComponentLink2URL: http://www.national.com/ds/LM/LM5041B.pdf; ComponentLink3Description: LM5041B Web Page; ComponentLink3URL: http://www.national.com/pf/LM/LM5041B.html; ComponentLink4Description: MTC16 Package Page; ComponentLink4URL: http://www.national.com/packaging/folders/mtc16.html
footprint MTC16_N (TSOP, 16-Leads, Body 5x4.4mm, Pitch 0.65mm, IPC Medium Density)
footprint MTC16_L (TSOP, 16-Leads, Body 5x4.4mm, Pitch 0.65mm, IPC High Density)
footprint MTC16_M (TSOP, 16-Leads, Body 5x4.4mm, Pitch 0.65mm, IPC Low Density)
pins: 1 VIN (power), 2 FB (in), 3 COMP, 4 REF (power), 5 HD (out), 6 LD (out), 7 VCC (power), 8 PUSH (out), 9 PULL (out), 10 PGND (power), 11 AGND (power), 12 CS (in), 13 SS, 14 TIME (in), 15 RT (in), 16 UVLO (in)

## LM5041BMTCX/NOPB
designator U?
Cascaded PWM Controller, 16-pin TSSOP, Pb-Free; PartNumber: LM5041BMTCX/NOPB; Manufacturer: National Semiconductor; PackageTopMarking: NSUZXYTT*LM5041B*MTC; PowerWise: Y; CompType: Switcher; DatasheetVersion: May-2009; PackageVersion: revD, Jun-2003; PackageReference: MTC16; PackageDescription: Molded TSSOP, Jedec, 5 x 4.4 x 0.9mm Body, 16 Lead, 0.65mm Pitch; RoHS: Y; PinCount: 16; High-Reliability: Y; Code_JEDEC: MO-153-AB; ComponentLink1Description: Manufacturer URL; ComponentLink1URL: http://www.national.com/; ComponentLink2Description: LM5041B Datasheet; ComponentLink2URL: http://www.national.com/ds/LM/LM5041B.pdf; ComponentLink3Description: LM5041B Web Page; ComponentLink3URL: http://www.national.com/pf/LM/LM5041B.html; ComponentLink4Description: MTC16 Package Page; ComponentLink4URL: http://www.national.com/packaging/folders/mtc16.html
footprint MTC16_N (TSOP, 16-Leads, Body 5x4.4mm, Pitch 0.65mm, IPC Medium Density)
footprint MTC16_L (TSOP, 16-Leads, Body 5x4.4mm, Pitch 0.65mm, IPC High Density)
footprint MTC16_M (TSOP, 16-Leads, Body 5x4.4mm, Pitch 0.65mm, IPC Low Density)
pins: 1 VIN (power), 2 FB (in), 3 COMP, 4 REF (power), 5 HD (out), 6 LD (out), 7 VCC (power), 8 PUSH (out), 9 PULL (out), 10 PGND (power), 11 AGND (power), 12 CS (in), 13 SS, 14 TIME (in), 15 RT (in), 16 UVLO (in)

## LM5041MTC/NOPB
designator U?
Cascaded PWM Controller, 16-pin TSSOP, Pb-Free; PartNumber: LM5041MTC/NOPB; Manufacturer: National Semiconductor; PackageTopMarking: NSZXYTT*LM5041*MTC; PowerWise: Y; CompType: Switcher; DatasheetVersion: Apr-2004; PackageVersion: revD, Jun-2003; PackageReference: MTC16; PackageDescription: Molded TSSOP, Jedec, 5 x 4.4 x 0.9mm Body, 16 Lead, 0.65mm Pitch; RoHS: Y; PinCount: 16; High-Reliability: Y; Code_JEDEC: MO-153-AB; ComponentLink1Description: Manufacturer URL; ComponentLink1URL: http://www.national.com/; ComponentLink2Description: LM5041 Datasheet; ComponentLink2URL: http://www.national.com/ds/LM/LM5041.pdf; ComponentLink3Description: LM5041 Web Page; ComponentLink3URL: http://www.national.com/pf/LM/LM5041.html; ComponentLink4Description: MTC16 Package Page; ComponentLink4URL: http://www.national.com/packaging/folders/mtc16.html
footprint MTC16_N (TSOP, 16-Leads, Body 5x4.4mm, Pitch 0.65mm, IPC Medium Density)
footprint MTC16_L (TSOP, 16-Leads, Body 5x4.4mm, Pitch 0.65mm, IPC High Density)
footprint MTC16_M (TSOP, 16-Leads, Body 5x4.4mm, Pitch 0.65mm, IPC Low Density)
pins: 1 VIN (power), 2 FB (in), 3 COMP, 4 REF (power), 5 HD (out), 6 LD (out), 7 VCC (power), 8 PUSH (out), 9 PULL (out), 10 PGND (power), 11 AGND (power), 12 CS (in), 13 SS, 14 TIME (in), 15 RT/SYNC (in), 16 UVLO (in)

## LM5041MTCX
designator U?
Cascaded PWM Controller, 16-pin TSSOP; PartNumber: LM5041MTCX; Manufacturer: National Semiconductor; PackageTopMarking: NSZXYTT*LM5041*MTC; PowerWise: Y; CompType: Switcher; DatasheetVersion: Apr-2004; PackageVersion: revD, Jun-2003; PackageReference: MTC16; PackageDescription: Molded TSSOP, Jedec, 5 x 4.4 x 0.9mm Body, 16 Lead, 0.65mm Pitch; RoHS: N; PinCount: 16; High-Reliability: Y; Code_JEDEC: MO-153-AB; ComponentLink1Description: Manufacturer URL; ComponentLink1URL: http://www.national.com/; ComponentLink2Description: LM5041 Datasheet; ComponentLink2URL: http://www.national.com/ds/LM/LM5041.pdf; ComponentLink3Description: LM5041 Web Page; ComponentLink3URL: http://www.national.com/pf/LM/LM5041.html; ComponentLink4Description: MTC16 Package Page; ComponentLink4URL: http://www.national.com/packaging/folders/mtc16.html
footprint MTC16_N (TSOP, 16-Leads, Body 5x4.4mm, Pitch 0.65mm, IPC Medium Density)
footprint MTC16_L (TSOP, 16-Leads, Body 5x4.4mm, Pitch 0.65mm, IPC High Density)
footprint MTC16_M (TSOP, 16-Leads, Body 5x4.4mm, Pitch 0.65mm, IPC Low Density)
pins: 1 VIN (power), 2 FB (in), 3 COMP, 4 REF (power), 5 HD (out), 6 LD (out), 7 VCC (power), 8 PUSH (out), 9 PULL (out), 10 PGND (power), 11 AGND (power), 12 CS (in), 13 SS, 14 TIME (in), 15 RT/SYNC (in), 16 UVLO (in)

## LM5041SD/NOPB
designator U?
Cascaded PWM Controller, 16-pin LLP, Pb-Free; PartNumber: LM5041SD/NOPB; Manufacturer: National Semiconductor; PackageTopMarking: NS*UZXYTT*5041SD; PowerWise: Y; CompType: Switcher; DatasheetVersion: Apr-2004; PackageVersion: revA, May-2003; PackageReference: SDA16A; PackageDescription: LLP, Plastic, Dual, 5 x 5 x 0.8mm Body,16 Lead, 0.5mm Pitch, No Pullback; RoHS: Y; PinCount: 16; High-Reliability: Y; ComponentLink1Description: Manufacturer URL; ComponentLink1URL: http://www.national.com/; ComponentLink2Description: LM5041 Datasheet; ComponentLink2URL: http://www.national.com/ds/LM/LM5041.pdf; ComponentLink3Description: LM5041 Web Page; ComponentLink3URL: http://www.national.com/pf/LM/LM5041.html; ComponentLink4Description: SDA16A Package Page; ComponentLink4URL: http://www.national.com/packaging/folders/sda16a.html
footprint SDA16A (SON, 16-Leads, Body 5x5mm, Pitch 0.5mm, NSC Recommended)
pins: 1 VIN (power), 2 FB (in), 3 COMP, 4 REF (power), 5 HD (out), 6 LD (out), 7 VCC (power), 8 PUSH (out), 9 PULL (out), 10 PGND (power), 11 AGND (power), 12 CS (in), 13 SS, 14 TIME (in), 15 RT/SYNC (in), 16 UVLO (in), 17 DAP (power)

## LM5041SDX
designator U?
Cascaded PWM Controller, 16-pin LLP; PartNumber: LM5041SDX; Manufacturer: National Semiconductor; PackageTopMarking: NS*UZXYTT*5041SD; PowerWise: Y; CompType: Switcher; DatasheetVersion: Apr-2004; PackageVersion: revA, May-2003; PackageReference: SDA16A; PackageDescription: LLP, Plastic, Dual, 5 x 5 x 0.8mm Body,16 Lead, 0.5mm Pitch, No Pullback; RoHS: N; PinCount: 16; High-Reliability: Y; ComponentLink1Description: Manufacturer URL; ComponentLink1URL: http://www.national.com/; ComponentLink2Description: LM5041 Datasheet; ComponentLink2URL: http://www.national.com/ds/LM/LM5041.pdf; ComponentLink3Description: LM5041 Web Page; ComponentLink3URL: http://www.national.com/pf/LM/LM5041.html; ComponentLink4Description: SDA16A Package Page; ComponentLink4URL: http://www.national.com/packaging/folders/sda16a.html
footprint SDA16A (SON, 16-Leads, Body 5x5mm, Pitch 0.5mm, NSC Recommended)
pins: 1 VIN (power), 2 FB (in), 3 COMP, 4 REF (power), 5 HD (out), 6 LD (out), 7 VCC (power), 8 PUSH (out), 9 PULL (out), 10 PGND (power), 11 AGND (power), 12 CS (in), 13 SS, 14 TIME (in), 15 RT/SYNC (in), 16 UVLO (in), 17 DAP (power)

## LM5060MM/NOPB
designator U?
High-Side Protection Controller with Low Quiescent Current, Standard Grade, 10-pin Mini SOIC, 1000 Reel; PartNumber: LM5060MM/NOPB; Manufacturer: National Semiconductor; PackageTopMarking: ZXTT*SXAB; PowerWise: Y; CompType: Switcher; DatasheetVersion: Dec-2010; PackageVersion: revB, Jul-2003; PackageReference: MUB10A; PackageDescription: Mini-SO, Molded, .118 x .118 x .034in Body, 10 Lead, .0197in Pitch; RoHS: Y; PinCount: 10; High-Reliability: Y; Code_JEDEC: MO-187-BA; ComponentLink1Description: Manufacturer URL; ComponentLink1URL: http://www.national.com/; ComponentLink2Description: LM5060 Datasheet; ComponentLink2URL: http://www.national.com/ds/LM/LM5060.pdf; ComponentLink3Description: LM5060 Web Page; ComponentLink3URL: http://www.national.com/pf/LM/LM5060.html; ComponentLink4Description: MUB10A Package Page; ComponentLink4URL: http://www.national.com/packaging/folders/mub10a.html
footprint MUB10A_N (TSSOP, 10-Leads, Body 3x3mm, Pitch 0.5mm, IPC Medium Density)
footprint MUB10A_L (TSSOP, 10-Leads, Body 3x3mm, Pitch 0.5mm, IPC High Density)
footprint MUB10A_M (TSSOP, 10-Leads, Body 3x3mm, Pitch 0.5mm, IPC Low Density)
pins: 1 SEN (in), 2 VIN (power), 3 OVP (in), 4 UVLO (in), 5 EN (in), 6 GND (power), 7 TIMER (in), 8 nPGD (oc), 9 OUT (out), 10 GATE (out)

## LM5060MMX/NOPB
designator U?
High-Side Protection Controller with Low Quiescent Current, Standard Grade, 10-pin Mini SOIC, 3500 Reel; PartNumber: LM5060MMX/NOPB; Manufacturer: National Semiconductor; PackageTopMarking: ZXTT*SXAB; PowerWise: Y; CompType: Switcher; DatasheetVersion: Dec-2010; PackageVersion: revB, Jul-2003; PackageReference: MUB10A; PackageDescription: Mini-SO, Molded, .118 x .118 x .034in Body, 10 Lead, .0197in Pitch; RoHS: Y; PinCount: 10; High-Reliability: Y; Code_JEDEC: MO-187-BA; ComponentLink1Description: Manufacturer URL; ComponentLink1URL: http://www.national.com/; ComponentLink2Description: LM5060 Datasheet; ComponentLink2URL: http://www.national.com/ds/LM/LM5060.pdf; ComponentLink3Description: LM5060 Web Page; ComponentLink3URL: http://www.national.com/pf/LM/LM5060.html; ComponentLink4Description: MUB10A Package Page; ComponentLink4URL: http://www.national.com/packaging/folders/mub10a.html
footprint MUB10A_N (TSSOP, 10-Leads, Body 3x3mm, Pitch 0.5mm, IPC Medium Density)
footprint MUB10A_L (TSSOP, 10-Leads, Body 3x3mm, Pitch 0.5mm, IPC High Density)
footprint MUB10A_M (TSSOP, 10-Leads, Body 3x3mm, Pitch 0.5mm, IPC Low Density)
pins: 1 SEN (in), 2 VIN (power), 3 OVP (in), 4 UVLO (in), 5 EN (in), 6 GND (power), 7 TIMER (in), 8 nPGD (oc), 9 OUT (out), 10 GATE (out)

## LM5060Q1MM/NOPB
designator U?
High-Side Protection Controller with Low Quiescent Current, 10-pin MSOP, Pb-Free; PartNumber: LM5060Q1MM/NOPB; Manufacturer: National Semiconductor; PackageTopMarking: ZXTT*SZAB; PowerWise: Y; CompType: Switcher; DatasheetVersion: Dec-2010; PackageVersion: revB, Jul-2003; PackageReference: MUB10A; PackageDescription: Mini-SO, Molded, .118 x .118 x .034in Body, 10 Lead, .0197in Pitch; RoHS: Y; PinCount: 10; High-Reliability: Y; Code_JEDEC: MO-187-BA; ComponentLink1Description: Manufacturer URL; ComponentLink1URL: http://www.national.com/; ComponentLink2Description: LM5060 Datasheet; ComponentLink2URL: http://www.national.com/ds/LM/LM5060.pdf; ComponentLink3Description: LM5060 Web Page; ComponentLink3URL: http://www.national.com/pf/LM/LM5060.html; ComponentLink4Description: MUB10A Package Page; ComponentLink4URL: http://www.national.com/packaging/folders/mub10a.html
footprint MUB10A_N (TSSOP, 10-Leads, Body 3x3mm, Pitch 0.5mm, IPC Medium Density)
footprint MUB10A_L (TSSOP, 10-Leads, Body 3x3mm, Pitch 0.5mm, IPC High Density)
footprint MUB10A_M (TSSOP, 10-Leads, Body 3x3mm, Pitch 0.5mm, IPC Low Density)
pins: 1 SEN (in), 2 VIN (power), 3 OVP (in), 4 UVLO (in), 5 EN (in), 6 GND (power), 7 TIMER (in), 8 nPGD (oc), 9 OUT (out), 10 GATE (out)

## LM5060Q1MMX/NOPB
designator U?
High-Side Protection Controller with Low Quiescent Current, 10-pin MSOP, Pb-Free; PartNumber: LM5060Q1MMX/NOPB; Manufacturer: National Semiconductor; PackageTopMarking: ZXTT*SZAB; PowerWise: Y; CompType: Switcher; DatasheetVersion: Dec-2010; PackageVersion: revB, Jul-2003; PackageReference: MUB10A; PackageDescription: Mini-SO, Molded, .118 x .118 x .034in Body, 10 Lead, .0197in Pitch; RoHS: Y; PinCount: 10; High-Reliability: Y; Code_JEDEC: MO-187-BA; ComponentLink1Description: Manufacturer URL; ComponentLink1URL: http://www.national.com/; ComponentLink2Description: LM5060 Datasheet; ComponentLink2URL: http://www.national.com/ds/LM/LM5060.pdf; ComponentLink3Description: LM5060 Web Page; ComponentLink3URL: http://www.national.com/pf/LM/LM5060.html; ComponentLink4Description: MUB10A Package Page; ComponentLink4URL: http://www.national.com/packaging/folders/mub10a.html
footprint MUB10A_N (TSSOP, 10-Leads, Body 3x3mm, Pitch 0.5mm, IPC Medium Density)
footprint MUB10A_L (TSSOP, 10-Leads, Body 3x3mm, Pitch 0.5mm, IPC High Density)
footprint MUB10A_M (TSSOP, 10-Leads, Body 3x3mm, Pitch 0.5mm, IPC Low Density)
pins: 1 SEN (in), 2 VIN (power), 3 OVP (in), 4 UVLO (in), 5 EN (in), 6 GND (power), 7 TIMER (in), 8 nPGD (oc), 9 OUT (out), 10 GATE (out)

## LM5085MM
designator U?
75V Constant On-Time PFET Buck Switching Controller, 8-pin MSOP; PartNumber: LM5085MM; Manufacturer: National Semiconductor; PackageTopMarking: ZXTT*SSTB; PowerWise: Y; CompType: Switcher; DatasheetVersion: Dec-2009; PackageVersion: revF, Apr-2008; PackageReference: MUA08A; PackageDescription: MINI SOIC, .118 x .118 x .034in, 8 Lead, .0256in Pitch; RoHS: Y; PinCount: 8; High-Reliability: Y; Code_JEDEC: MO-187-AA; ComponentLink1Description: Manufacturer URL; ComponentLink1URL: http://www.national.com/; ComponentLink2Description: LM5085 Datasheet; ComponentLink2URL: http://www.national.com/ds/LM/LM5085.pdf; ComponentLink3Description: LM5085 Web Page; ComponentLink3URL: http://www.national.com/pf/LM/LM5085.html; ComponentLink4Description: MUA08A Package Page; ComponentLink4URL: http://www.national.com/packaging/folders/mua08a.html
footprint MUA08A_N (TSOP, 8-Leads, Body 3x3mm, Pitch 0.65mm, IPC Medium Density)
footprint MUA08A_L (TSOP, 8-Leads, Body 3x3mm, Pitch 0.65mm, IPC High Density)
footprint MUA08A_M (TSOP, 8-Leads, Body 3x3mm, Pitch 0.65mm, IPC Low Density)
pins: 1 ADJ, 2 RT, 3 FB, 4 GND (power), 5 ISEN, 6 PGATE, 7 VCC (power), 8 VIN